# Altium schematic symbol library FAN7390.SchLib: 2 symbols
Pins are listed as number, name and electrical type; pins without a type are passive.

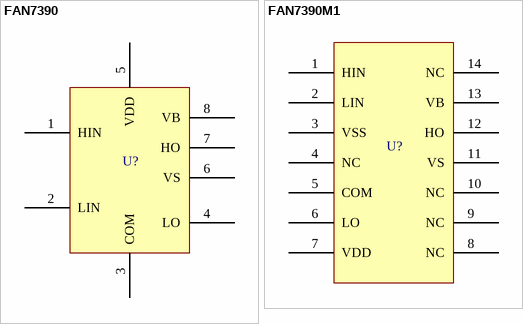
[diagram p0: symbols FAN7390 to FAN7390M1]

## FAN7390
designator U?  (value not drawn)
High & Low side Gate Driver, 4.5A
footprint SO-8_L (SOIC, 8-Leads, Body 4.9x3.9mm, Pitch 1.27mm, IPC High Density)
pins: 1 HIN, 2 LIN, 3 COM, 4 LO, 5 VDD, 6 VS, 7 HO, 8 VB

## FAN7390M1
designator U?  (value not drawn)
High & Low side Gate Driver, 4.5A
footprint SO-14_L (SOIC, 14-Leads, Body 8.7x3.9mm, Pitch 1.27mm, IPC High Density)
pins: 1 HIN, 2 LIN, 3 VSS, 4 NC, 5 COM, 6 LO, 7 VDD, 8 NC, 9 NC, 10 NC, 11 VS, 12 HO, 13 VB, 14 NC